# Altium integrated library MIC1557YM5-TR.IntLib: 2 symbols
Pins are listed as number, name and electrical type; pins without a type are passive.

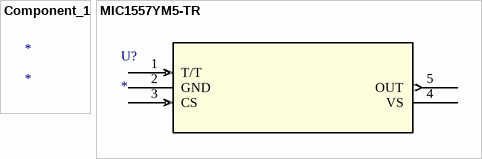
[diagram p0: symbols Component_1 to MIC1557YM5-TR]

## Component_1
designator *

## MIC1557YM5-TR
designator U?
No Description Available; Mfr_Name: Microchip; RefDes: RefDes; Type: Type
footprint SOT-23-5_M5_MCH
pins: 1 T/T (in), 2 GND (power), 3 CS (in), 4 VS (power), 5 OUT (out)